# Altium schematic symbol library Schematic_Altium_Library_Manuel.SchLib: 52 symbols
Pins are listed as number, name and electrical type; pins without a type are passive.

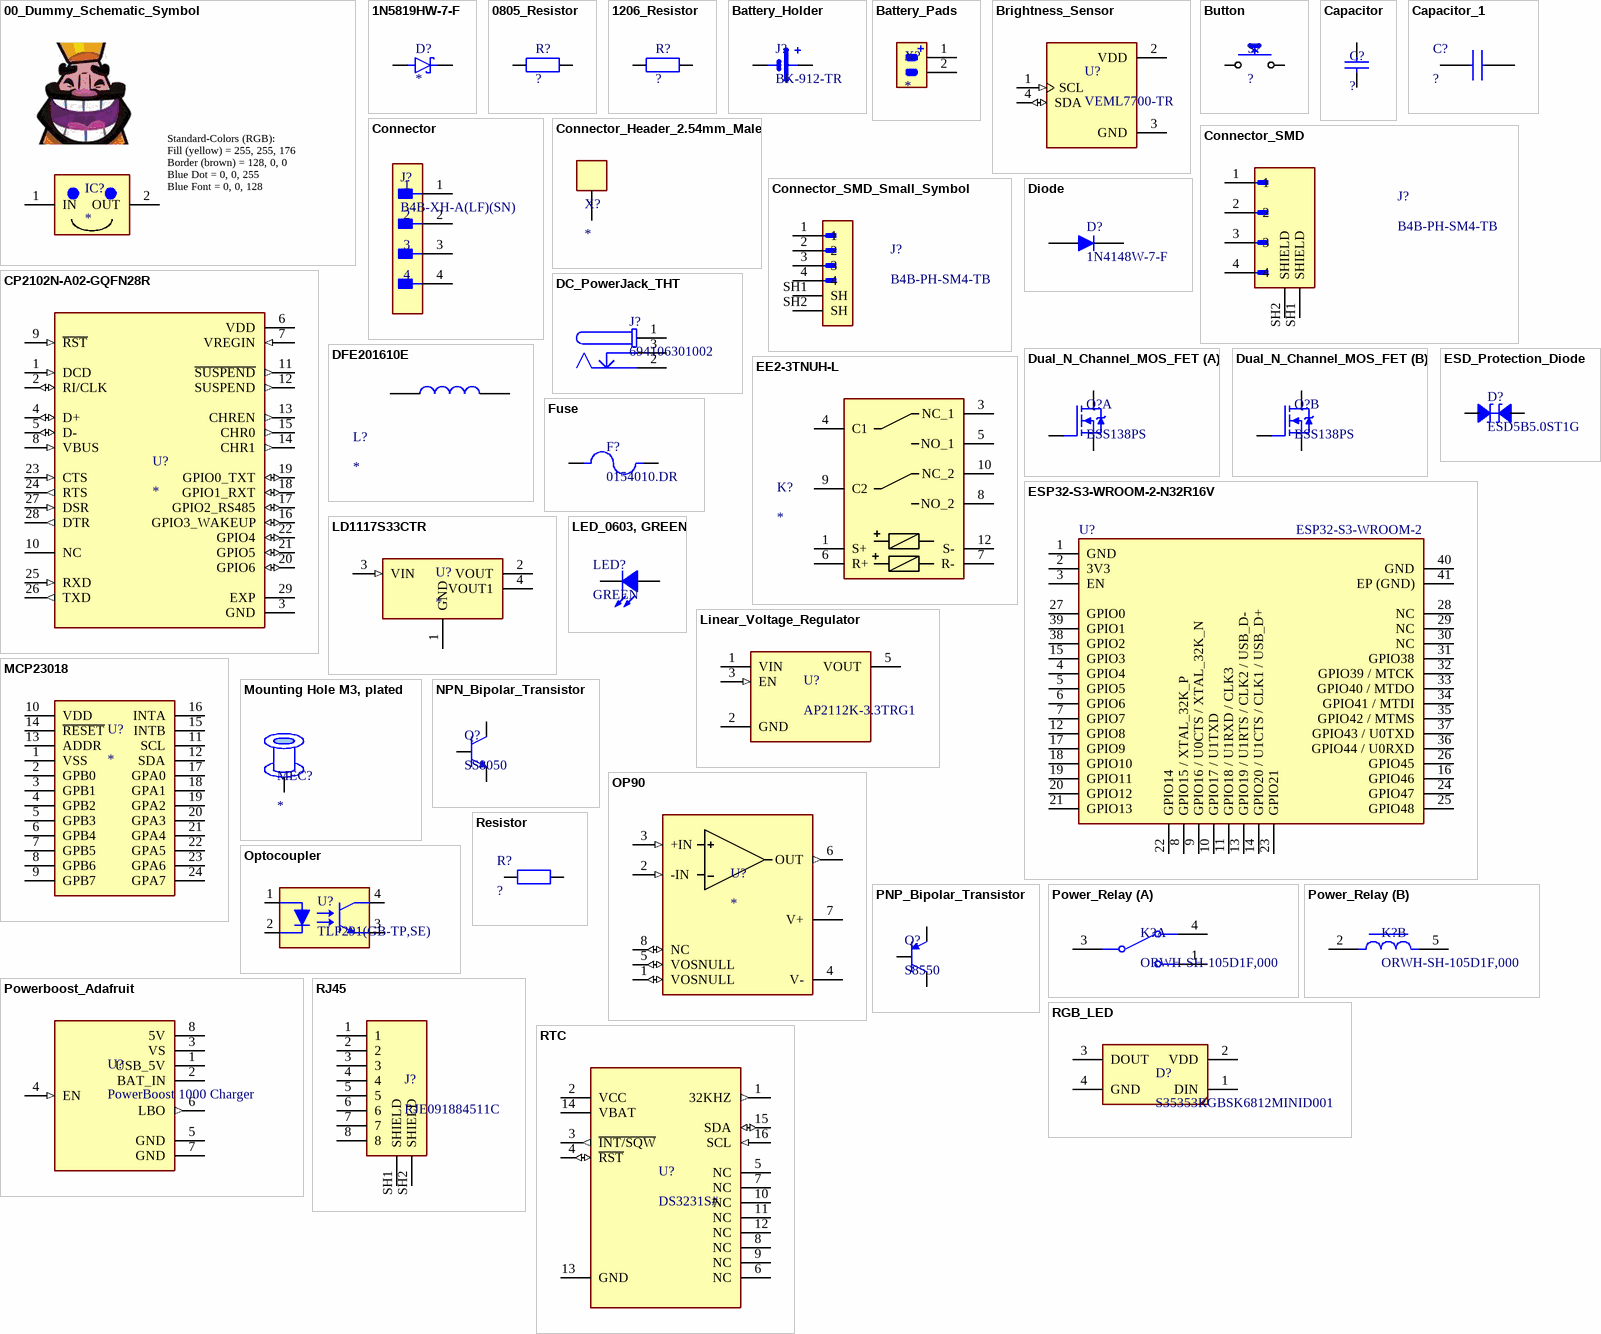
[diagram p0: symbols 00_Dummy_Schematic_Symbol to RTC]

## 00_Dummy_Schematic_Symbol
designator IC?
Template with all Parameters for colors.
footprint 00_Dummy_PCB_Footprint (SMD, 2 x 2 x 1 mm3, 12 Pin)
pins: 1 IN, 2 OUT
text: Standard-Colors (RGB): / Fill (yellow) = 255, 255, 176 / Border (brown) = 128, 0, 0 / Blue Dot = 0, 0, 255 / Blue Font = 0, 0, 128

## 1N5819HW-7-F
designator D?
Schottky - diode; ComponentLink1Description: Datasheet; ComponentLink1URL: chrome-extension://efaidnbmnnnibpcajpcglclefindmkaj/https://www.diodes.com/assets/Datasheets/1N5819HW.pdf; ComponentLink2Description: Supplier; ComponentLink2URL: https://www.digikey.ch/en/products/detail/diodes-incorporated/1N5819HW-7-F/814970
footprint 1N5819HW-7-F (Schottky - diode)
pins: A, C K

## 0805_Resistor
designator R?, comment ?
0805
footprint 0805_Resistor (0805)
pins: 1, 2

## 1206_Resistor
designator R?, comment ?
1206
footprint 1206_Resistor (1206)
pins: 1, 2

## Battery_Holder
designator J?, comment BK-912-TR
Battery Retainer Coin, 20.0mm 1 Cell SMD _SMT_ Tab.; ComponentLink1Description: Supplier; ComponentLink1URL: https://www.digikey.ch/en/products/detail/mpd-memory-protection-devices/BK-912-TR/2077831?s=N4IgTCBcDaIEIGkC0BOAjGJAVASiAugL5A
footprint Battery_Holder (MPD_BK-912-TR, Battery Retainer Coin, 20.0mm 1 Cell SMD _SMT_ Tab.)
pins: 1 POS, 2 POS, 3 NEG

## Battery_Pads
designator X?
Pads to connect battery
footprint Battery_Pads
pins: 1, 2

## Brightness_Sensor
designator U?, comment VEML7700-TR
SENSOR OPT 545NMAMB 4 SMD J LEAD.; ComponentLink1Description: Supplier; ComponentLink1URL: https://www.digikey.ch/en/products/detail/vishay-semiconductor-opto-division/VEML7700-TR/5820243
footprint Brightness_Sensor (VEML7700-TR, SENSOR OPT 545NMAMB 4 SMD J LEAD.)
pins: 1 SCL (in), 2 VDD (power), 3 GND (power), 4 SDA (io)

## Button
designator S?, comment ?
footprint PTS636SK25SMTR
pins: 1, 2

## Capacitor
designator C?, comment ?
0603
footprint 0603_CAPACITOR
pins: 1, 2

## Capacitor_1
designator C?, comment ?
Aluminum Organic Polymer Capacitors 6.3V 470uF 105C
footprint CAPACITOR (Aluminum Organic Polymer Capacitors 6.3V 470uF 105C)
pins: 1 +, 2 -

## Connector
designator J?, comment B4B-XH-A(LF)(SN)
CONN HEADER VERT 4POS 2.5MM.
footprint Connector (FP-B4B-XH-A_LF_SN-MFG)
pins: 1, 2, 3, 4

## Connector_Header_2.54mm_Male
designator X?
THT 2.54mm Connector Header Male
footprint Connector_Header_2.54mm_Male
pins: 1

## Connector_SMD
designator J?, comment B4B-PH-SM4-TB
CONN HEADER SMD 4POS 2MM.; ComponentLink1Description: Supplier; ComponentLink1URL: https://www.digikey.ch/en/products/detail/jst-sales-america-inc/B4B-PH-SM4-TB/926643
footprint Connector_SMD (B4B-PH-SM4-TB, CONN HEADER SMD 4POS 2MM.)
pins: 1, 2, 3, 4, SH1 SHIELD, SH2 SHIELD

## Connector_SMD_Small_Symbol
designator J?, comment B4B-PH-SM4-TB
CONN HEADER SMD 4POS 2MM.; ComponentLink1Description: Supplier; ComponentLink1URL: https://www.digikey.ch/en/products/detail/jst-sales-america-inc/B4B-PH-SM4-TB/926643
footprint Connector_SMD (B4B-PH-SM4-TB, CONN HEADER SMD 4POS 2MM.)
pins: 1, 2, 3, 4, SH1 SH, SH2 SH

## CP2102N-A02-GQFN28R
designator U?
USB to UART bridge.; ComponentLink1Description: Datasheet; ComponentLink1URL: chrome-extension://efaidnbmnnnibpcajpcglclefindmkaj/https://www.silabs.com/documents/public/data-sheets/cp2102n-datasheet.pdf; ComponentLink2Description: Supplierlink; ComponentLink2URL: https://www.digikey.ch/en/products/detail/silicon-laboratories-inc/CP2102N-A02-GQFN28R/9863486?utm_source=findchips&utm_medium=aggregator&utm_campaign=buynow
footprint CP2102N-A02-GQFN28R (USB to UART bridge.)
pins: 1 DCD (in), 2 RI/CLK (io), 3 GND (power), 4 D+ (io), 5 D- (io), 6 VDD (power), 7 VREGIN (in), 8 VBUS (in), 9 ~{RST} (in), 10 NC, 11 ~{SUSPEND} (out), 12 SUSPEND (out), 13 CHREN (out), 14 CHR1 (out), 15 CHR0 (out), 16 GPIO3_WAKEUP (io), 17 GPIO2_RS485 (io), 18 GPIO1_RXT (io), 19 GPIO0_TXT (io), 20 GPIO6 (io), 21 GPIO5 (io), 22 GPIO4 (io), 23 CTS (in), 24 RTS (out), 25 RXD (in), 26 TXD (out), 27 DSR (in), 28 DTR (out), 29 EXP (power)

## DC_PowerJack_THT
designator J?, comment 694106301002
DCPowerJack_THT_R/A_Plastic_CenterPin_ Ã˜2.0.
footprint DC_PowerJack_THT (694106301002, DCPowerJack_THT_R/A_Plastic_CenterPin_ Ã˜2.0.)
pins: 1, 2, 3

## DFE201610E
designator L?
DFE201610E-1R0M=P2 Series Inductor 1.0uH +/-20% 0806
footprint DFE201610E (DFE201610E-1R0M=P2 Series Inductor 1.0uH +/-20% 0806)
pins: 1, 2

## Diode
designator D?, comment 1N4148W-7-F
Fast Switching Diode, 100 V, 0.15 A, -65 to 150 degC, 2-Pin?SOD123, RoHS, Tape and Reel.
footprint Diode (1N4148W-7-F, Fast Switching Diode, 100 V, 0.15 A, -65 to 150 degC, 2-Pin?SOD123, RoHS, Tape and Reel.)
pins: 1 A, 2 K

## Dual_N_Channel_MOS_FET
designator Q?, comment BSS138PS
Mosfet Array 60V 300mA (Ta) 350mW (Ta) Surface Mount SOT-23-6.; ComponentLink1Description: Supplier; ComponentLink1URL: https://www.digikey.ch/en/products/detail/nexperia-usa-inc/2N7002PS-115/2296325?s=N4IgTCBcDaIKwDYAcBaOBOJAWFBGFAcgCIgC6AvkA
footprint Dual_N_Channel_MOS_FET (BSS138PS, Mosfet Array 60V 300mA (Ta) 350mW (Ta) Surface Mount SOT-23-6.)
part A pins: 1 S, 2 G, 6 D
part B pins: 3 D, 4 S, 5 G

## EE2-3TNUH-L
designator K?
Low Signal Latching Relay 3.0 V SMD, 2 Coils
footprint EE2-3TNUH-L (Low Signal Latching Relay 3.0 V SMD, 2 Coils)
pins: 1 S+, 3 NC_1, 4 C1, 5 NO_1, 6 R+, 7 R-, 8 NO_2, 9 C2, 10 NC_2, 12 S-

## ESD_Protection_Diode
designator D?, comment ESD5B5.0ST1G
ComponentLink1Description: Supplier; ComponentLink1URL: https://www.digikey.com/en/products/detail/onsemi/ESD5B5-0ST1G/1792206
footprint ESD_Protecction_Diode (ESD5B5.0ST1G)
pins: A P$1, K P$2

## ESP32-S3-WROOM-2-N32R16V
designator U?, comment ESP32-S3-WROOM-2
Bluetooth, WiFi 802.11b/g/n, Bluetooth v5.0 Transceiver Module 2.4GHz PCB Trace Surface Mount; Manufacturer: Espressif Systems; Manufacturer Part Number: ESP32-S3-WROOM-2-N32R16V; Latest Revision Made By: Simon Gimple; Latest Revision Note: New Part; Assembly Technology: SMD; Latest Revision Date: 17.10.2025; Note Schematic: *; SMS-Lab Part Number: *; Supplier 1: DigiKey; Supplier 2: Mouser; Supplier 3: *; Supplier 1 Part Number: 1965-ESP32-S3-WROOM-2-N32R16VCT-ND; Supplier 2 Part Number: 356-SP32S3WM2N32R16V; Supplier 3 Part Number: *; Value: *; ComponentLink1Description: Show Datasheet on SMS Drive; ComponentLink1URL: P:\Electronic Workshop\Datasheets (Refered in Libraries - Don't Change!)\ESP32-S3-WROOM-2-N32R16V_Digikey_1965-ESP32-S3-WROOM-2-N32R16VCT-ND.pdf
footprint ESP32-S3-WROOM-2 (ESP32-S3-WROOM-2-N32R16V)
pins: 1 GND, 2 3V3, 3 EN, 4 GPIO4, 5 GPIO5, 6 GPIO6, 7 GPIO7, 8 GPIO15 / XTAL_32K_P, 9 GPIO16 / U0CTS / XTAL_32K_N, 10 GPIO17 / U1TXD, 11 GPIO18 / U1RXD / CLK3, 12 GPIO8, 13 GPIO19 / U1RTS / CLK2 / USB_D-, 14 GPIO20 / U1CTS / CLK1 / USB_D+, 15 GPIO3, 16 GPIO46, 17 GPIO9, 18 GPIO10, 19 GPIO11, 20 GPIO12, 21 GPIO13, 22 GPIO14, 23 GPIO21, 24 GPIO47, 25 GPIO48, 26 GPIO45, 27 GPIO0, 28 NC, 29 NC, 30 NC, 31 GPIO38, 32 GPIO39 / MTCK, 33 GPIO40 / MTDO, 34 GPIO41 / MTDI, 35 GPIO42 / MTMS, 36 GPIO44 / U0RXD, 37 GPIO43 / U0TXD, 38 GPIO2, 39 GPIO1, 40 GND, 41 EP (GND)

## Fuse
designator F?, comment 0154010.DR
FUSE BRD MNT 10A 125VAC/VDC SMD | Littelfuse 0154010.DR.
footprint Fuse (0154010.DR, FUSE BRD MNT 10A 125VAC/VDC SMD)
pins: 1, 2

## LD1117S33CTR
designator U?
LDO, 3.3V and 800mA.; ComponentLink1Description: Datasheet; ComponentLink1URL: chrome-extension://efaidnbmnnnibpcajpcglclefindmkaj/https://www.st.com/content/ccc/resource/technical/document/datasheet/99/3b/7d/91/91/51/4b/be/CD00000544.pdf/files/CD00000544.pdf/jcr:content/translations/en.CD00000544.pdf; ComponentLink2Description: Supplier; ComponentLink2URL: https://www.digikey.ch/en/products/detail/stmicroelectronics/LD1117S33CTR/585765
footprint LD1117S33CTR (LDO, 3.3V and 800mA.)
pins: 1 GND (power), 2 VOUT (power), 3 VIN (in), 4 VOUT1 (power)

## LED_0603, GREEN
designator LED?, comment GREEN
LED 0603, Green, 3.2 V, 20 mA, 430 mcd
footprint LED_0603, GREEN (LED 0603, Green, 3.2 V, 20 mA, 430 mcd)
pins: A, K

## Linear_Voltage_Regulator
designator U?, comment AP2112K-3.3TRG1
Linear Voltage Regulator IC Positive Fixed 1 Output 600mA SOT-25.; ComponentLink1Description: Supplier; ComponentLink1URL: https://www.digikey.ch/en/products/detail/diodes-incorporated/AP2112K-3-3TRG1/4470746?s=N4IgTCBcDaIIIAUwEZlgNIFoDMA6bIAugL5A
footprint Linear_Voltage_Regulator (AP2112K-3.3TRG1, Linear Voltage Regulator IC Positive Fixed 1 Output 600mA SOT-25.)
pins: 1 VIN (power), 2 GND (power), 3 EN (in), 5 VOUT (power)

## MCP23018
designator U?
16-bit I/O Expander I2C,  SSOP-24
footprint MCP23018 (16-bit I/O Expander I2C,  SSOP-24)
pins: 1 VSS, 2 GPB0, 3 GPB1, 4 GPB2, 5 GPB3, 6 GPB4, 7 GPB5, 8 GPB6, 9 GPB7, 10 VDD, 11 SCL, 12 SDA, 13 ADDR, 14 ~{RESET}, 15 INTB, 16 INTA, 17 GPA0, 18 GPA1, 19 GPA2, 20 GPA3, 21 GPA4, 22 GPA5, 23 GPA6, 24 GPA7

## Mounting Hole M3, plated
designator MEC?
Mounting Hole for M3 Screw, plated to connect signal
footprint Mounting Hole M3, plated (Mounting Hole for M3 Screw, plated to connect signal)
pins: 1

## NPN_Bipolar_Transistor
designator Q?, comment SS8050
SS8050 SOT - 23.; ComponentLink1Description: Supplier; ComponentLink1URL: https://www.digikey.com/en/products/detail/guangdong-inmark-electronics-co-ltd/SS8050/28539054
footprint NPN_Bipolar_Transistor (SS8050 SOT - 23.)
pins: 1 B, 2 E, 3 C

## OP90
designator U?
Operation amplifier OP90 SMD
footprint OP90 (Operation amplifier OP90 SMD)
pins: 1 VOSNULL (io), 2 -IN (in), 3 +IN (in), 4 V- (power), 5 VOSNULL (io), 6 OUT (out), 7 V+ (power), 8 NC (io)

## Optocoupler
designator U?, comment TLP291(GB-TP,SE)
Optoisolator Transistor Output 3750Vrms 1 Channel 4-SO.
footprint Optocoupler (TLP291(GB-TP,SE), Optoisolator Transistor Output 3750Vrms 1 Channel 4-SO.)
pins: 1 A, 2 C, 3 EMIT, 4 COL

## PNP_Bipolar_Transistor
designator Q?, comment S8550
Bipolar (BJT) Transistor PNP 25 V 500 mA 150MHz 300 mW Surface Mount SOT-23.
footprint PNP_Bipolar_Transistor (S8550, Bipolar (BJT) Transistor PNP 25 V 500 mA 150MHz 300 mW Surface Mount SOT-23.)
pins: 1 B, 2 E, 3 C

## Power_Relay
designator K?, comment ORWH-SH-105D1F,000
RELAY GEN PURPOSE SPDT 10A 5V.; ComponentLink1Description: Supplier; ComponentLink1URL: https://www.te.com/usa-en/product-1-1721150-0.html?te_bu=Cor&te_type=other&te_campaign=oct_glo_cor-oct-global-oth-prtnr-fy19-oct-octo-buy-bom_sma-298_2&elqCampaignId=35216
footprint Power_Relay (ORWH-SH-105D1F,000, RELAY GEN PURPOSE SPDT 10A 5V.)
part A pins: 1, 3, 4
part B pins: 2, 5

## Powerboost_Adafruit
designator U?, comment PowerBoost 1000 Charger
PowerBoost 1000 Charger - Rechargeable 5V Lipo USB Boost @ 1A - 1000C
footprint Powerboost_Adafruit (PowerBoost 1000 Charger - Rechargeable 5V Lipo USB Boost @ 1A - 1000C)
pins: 1 USB_5V (power), 2 BAT_IN (power), 3 VS (power), 4 EN (in), 5 GND (power), 6 LBO (out), 7 GND (power), 8 5V (power)

## Resistor
designator R?, comment ?
0603
footprint 0603_Resistor
pins: 1, 2

## RGB_LED
designator D?, comment S35353RGBSK6812MINID001
ComponentLink1Description: Supplier; ComponentLink1URL: https://www.digikey.com/en/products/detail/home-run-tech/S35353RGBSK6812MINID001/25879535?s=N4IgTCBcDaIMoGYCsyECUDiAhOBpAbABwCMYAsgJIByFAIgAz3EAEIAugL5A
footprint RGB_LED (S35353RGBSK6812MINID001)
pins: 1 DIN, 2 VDD, 3 DOUT, 4 GND

## RJ45
designator J?, comment RJE091884511C
Jack Modular Connector 8p8c (RJ45, Ethernet) 90Â° Angle (Right) Shielded Cat3.; MF: Amphenol ICC (Commercial Products); SnapEDA_Link: https://www.snapeda.com/parts/RJE091884511C/Amphenol/view-part/?ref=snap; Package: None; Value: *; MP: RJE091884511C; Check_prices: https://www.snapeda.com/parts/RJE091884511C/Amphenol/view-part/?ref=eda
footprint RJ45 (RJE091884511C, Jack Modular Connector 8p8c (RJ45, Ethernet) 90Â° Angle (Right) Shielded Cat3.)
pins: 1, 2, 3, 4, 5, 6, 7, 8, SH1 SHIELD, SH2 SHIELD

## RTC
designator U?, comment DS3231S#
Real Time Clock (RTC) IC Clock/Calendar - IÂ²C, 2-Wire Serial 16-SOIC (0.295, 7.50mm Width).; ComponentLink1Description: Supplier; ComponentLink1URL: https://www.digikey.ch/en/products/detail/analog-devices-inc-maxim-integrated/DS3231S/1197574
footprint RTC (DS3231S#, SOIC127P1032X265-16N, Real Time Clock (RTC) IC Clock/Calendar - IÂ²C, 2-Wire Serial 16-SOIC (0.295, 7.50mm Width).)
pins: 1 32KHZ (out), 2 VCC (power), 3 ~{INT/SQW} (out), 4 ~{RST} (io), 5 NC, 6 NC, 7 NC, 8 NC, 9 NC, 10 NC, 11 NC, 12 NC, 13 GND, 14 VBAT (power), 15 SDA (io), 16 SCL (in)

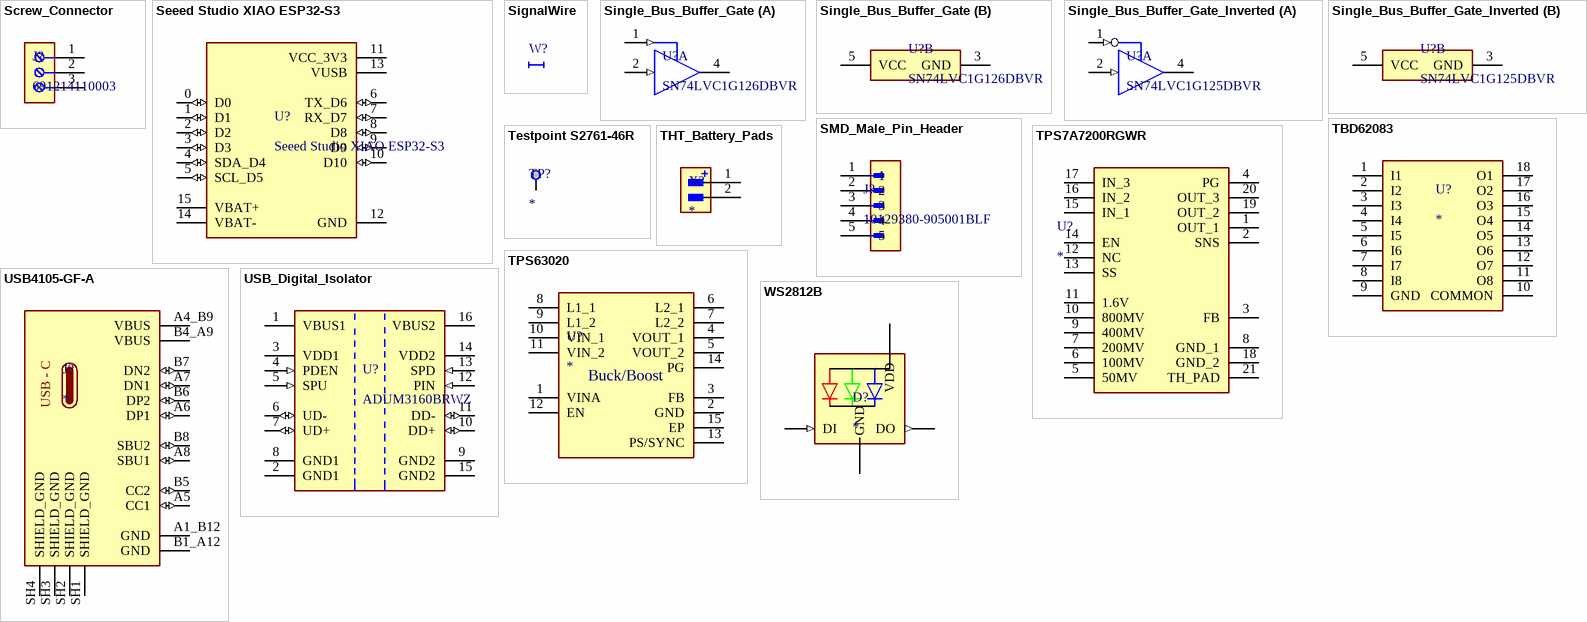
[diagram p1: symbols Screw_Connector to WS2812B]

## Screw_Connector
designator J?, comment 691214110003
691214110003 Wurth Elektronik
footprint Screw_Connector (691214110003 Wurth Elektronik, 3.50 mm Horizontal Entry Modular, 3p)
pins: 1, 2, 3

## Seeed Studio XIAO ESP32-S3
designator U?
footprint Seeed Studio XIAO ESP32-S3
pins: 0 D0 (io), 1 D1 (io), 2 D2 (io), 3 D3 (io), 4 SDA_D4 (io), 5 SCL_D5 (io), 6 TX_D6 (io), 7 RX_D7 (io), 8 D8 (io), 9 D9 (io), 10 D10 (io), 11 VCC_3V3 (power), 12 GND (power), 13 VUSB (power), 14 VBAT-, 15 VBAT+

## SignalWire
designator W?, comment Signal Wire  (value not drawn)  (net tie, no BOM)
Signal wire to connect two different signals in schematic; Latest Revision Made By: Jonas Giné; Latest Revision Note: New Parameters Added; Latest Revision Date: 25.11.13
footprint Signal_Wire_0.3MM (Signal wire to connect two different signals in schematic)
footprint Signal_Wire_0.5MM (Signal wire to connect two different signals in schematic)
footprint Signal_Wire_1MM (Signal wire to connect two different signals in schematic)
pins: 1, 2

## Single_Bus_Buffer_Gate
designator U?, comment SN74LVC1G126DBVR
Single Bus Buffer Gate With 3-State Outputs, DBV0005A, LARGE T&R.; ComponentLink1Description: Supplier; ComponentLink1URL: https://www.digikey.com/en/products/detail/texas-instruments/SN74LVC1G126DBVR/385722
footprint DBV0005A_L_Single_Bus_Buffer_Gate (SOT23, 5-Leads, Body 3.05x1.75mm, Pitch 0.95mm, IPC High Density.)
footprint DBV0005A_M_Single_Bus_Buffer_Gate (SOT23, 5-Leads, Body 3.05x1.75mm, Pitch 0.95mm, IPC Low Density.)
footprint DBV0005A_N_Single_Bus_Buffer_Gate (SOT23, 5-Leads, Body 3.05x1.75mm, Pitch 0.95mm, IPC Medium Density.)
part A pins: 1 OE (in), 2 A (in), 4 Y (hiz)
part B pins: 3 GND (power), 5 VCC (power)

## Single_Bus_Buffer_Gate_Inverted
designator U?, comment SN74LVC1G125DBVR
Single Bus Buffer Gate With 3-State Outputs, DBV0005A, LARGE T&R.; ComponentLink1Description: Supplier; ComponentLink1URL: *
footprint DBV0005A_L_Single_Bus_Buffer_Gate (SOT23, 5-Leads, Body 3.05x1.75mm, Pitch 0.95mm, IPC High Density.)
footprint DBV0005A_M_Single_Bus_Buffer_Gate (SOT23, 5-Leads, Body 3.05x1.75mm, Pitch 0.95mm, IPC Low Density.)
footprint DBV0005A_N_Single_Bus_Buffer_Gate (SOT23, 5-Leads, Body 3.05x1.75mm, Pitch 0.95mm, IPC Medium Density.)
part A pins: 1 OE (in), 2 A (in), 4 Y (hiz)
part B pins: 3 GND (power), 5 VCC (power)

## SMD_Male_Pin_Header
designator J?, comment 10129380-905001BLF
5x1 2.54mm Male Pin Header.
footprint SMD_Male_Pin_Header (10129380-905001BLF, 5x1 2.54mm Male Pin Header.)
pins: 1, 2, 3, 4, 5

## TBD62083
designator U?
Gate Drivers DMOS Transistor Array 8-CH, 50V/0.5A SOP-18
footprint TBD62083 (Gate Drivers DMOS Transistor Array 8-CH, 50V/0.5A SOP-18)
pins: 1 I1, 2 I2, 3 I3, 4 I4, 5 I5, 6 I6, 7 I7, 8 I8, 9 GND, 10 COMMON, 11 O8, 12 O7, 13 O6, 14 O5, 15 O4, 16 O3, 17 O2, 18 O1

## Testpoint S2761-46R
designator TP?
Prüfstecker und Messbuchsen EZ BoardWare S27 SMT Mini Test Terminal, Reel
footprint Testpoint S2761-46R (Prüfstecker und Messbuchsen EZ BoardWare S27 SMT Mini Test Terminal, Reel)
pins: 1

## THT_Battery_Pads
designator X?
Pads to connect battery
footprint THT_Battery_Pads (Pads to connect battery)
pins: 1, 2

## TPS7A7200RGWR
designator U?
Festspannungsregler 3V, Mouser Nr. 595-TPS7A7200RGWR
footprint TPS7A7200RGWR (Festspannungsregler 3V, Mouser Nr. 595-TPS7A7200RGWR)
pins: 1 OUT_1, 2 SNS, 3 FB, 4 PG, 5 50MV, 6 100MV, 7 200MV, 8 GND_1, 9 400MV, 10 800MV, 11 1.6V, 12 NC, 13 SS, 14 EN, 15 IN_1, 16 IN_2, 17 IN_3, 18 GND_2, 19 OUT_2, 20 OUT_3, 21 TH_PAD

## TPS63020
designator U?
Buck-Boost-Converter, Input: 1.8V-5.5V, Output:  1.2 V to 5.5 V, VSON-14
footprint TPS63020 (Buck-Boost-Converter, Input: 1.8V-5.5V, Output:  1.2 V to 5.5 V, VSON-14)
pins: 1 VINA, 2 GND, 3 FB, 4 VOUT_1, 5 VOUT_2, 6 L2_1, 7 L2_2, 8 L1_1, 9 L1_2, 10 VIN_1, 11 VIN_2, 12 EN, 13 PS/SYNC, 14 PG, 15 EP
text: Buck/Boost

## USB4105-GF-A
designator J?
USB - C - Port
footprint USB4105-GF-A
pins: A1_B12 GND (power), A4_B9 VBUS (power), A5 CC1 (io), A6 DP1 (io), A7 DN1 (io), A8 SBU1 (io), B1_A12 GND (power), B4_A9 VBUS (power), B5 CC2 (io), B6 DP2 (io), B7 DN2 (io), B8 SBU2 (io), SH1 SHIELD_GND (power), SH2 SHIELD_GND (power), SH3 SHIELD_GND (power), SH4 SHIELD_GND (power)
text: USB - C

## USB_Digital_Isolator
designator U?, comment ADUM3160BRWZ
DGT ISOL 2500VRMS 2CH USB 16SOIC.
footprint USB_Digital_Isolator_A (ADUM3160BRWZ, DGT ISOL 2500VRMS 2CH USB 16SOIC.)
footprint USB_Digital_Isolator_B (ADUM3160BRWZ, DGT ISOL 2500VRMS 2CH USB 16SOIC.)
footprint USB_Digital_Isolator_C (ADUM3160BRWZ, DGT ISOL 2500VRMS 2CH USB 16SOIC.)
pins: 1 VBUS1 (power), 2 GND1 (power), 3 VDD1 (power), 4 PDEN (in), 5 SPU (in), 6 UD- (io), 7 UD+ (io), 8 GND1 (power), 9 GND2 (power), 10 DD+ (io), 11 DD- (io), 12 PIN (in), 13 SPD (in), 14 VDD2 (power), 15 GND2 (power), 16 VBUS2 (power)

## WS2812B
designator D?
footprint WS2812B
pins: 1-VDD VDD (power), 2-DOUT DO (out), 3-GND GND (power), 4-DIN DI (in)